# EAGLE library part DIP-BLACK-FEMALE-HEADER-R/A(6P-2.54-90D) (library Seeed-OPL-Connector)
320030014
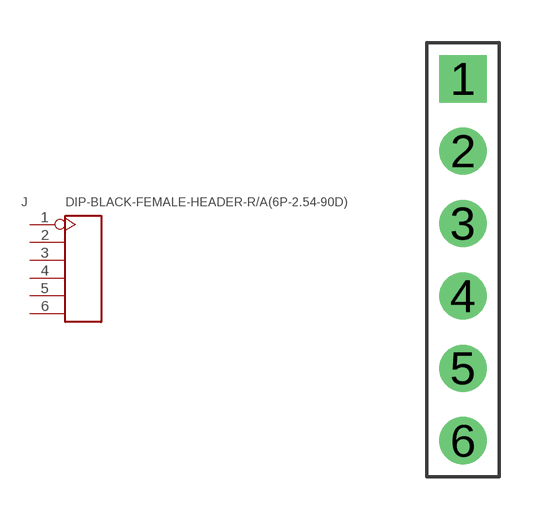
[diagram p27: symbol with the pads of H6-2.54-90D-FEMALE; footprint H6-2.54-90D-FEMALE]

Designator prefix J

## DIP-BLACK-FEMALE-HEADER-R/A(6P-2.54-90D)  [H6-2.54-90D-FEMALE]
1  1
2  2
3  3
4  4
5  5
6  6

## Footprint H6-2.54-90D-FEMALE (pad centres in mm)
drill 0.889 pad 1.651 square: 1 0,6.35
drill 0.889 pad 1.651: 2 0,3.81; 3 0,1.27; 4 0,-1.27; 5 0,-3.81; 6 0,-6.35